# Altium footprint library CC3D.PcbLib: 23 footprints (part 2 of 2)
Each footprint in its own frame and in the unit in brackets; x right, y up, seen from the top. Pads: shape width x height; smd on the part's side, far side on the other; paste and mask are expansions set on the pad; w line width, h text height; cw(c..) or ccw(c..) is an arc to the next point about the centre after c.
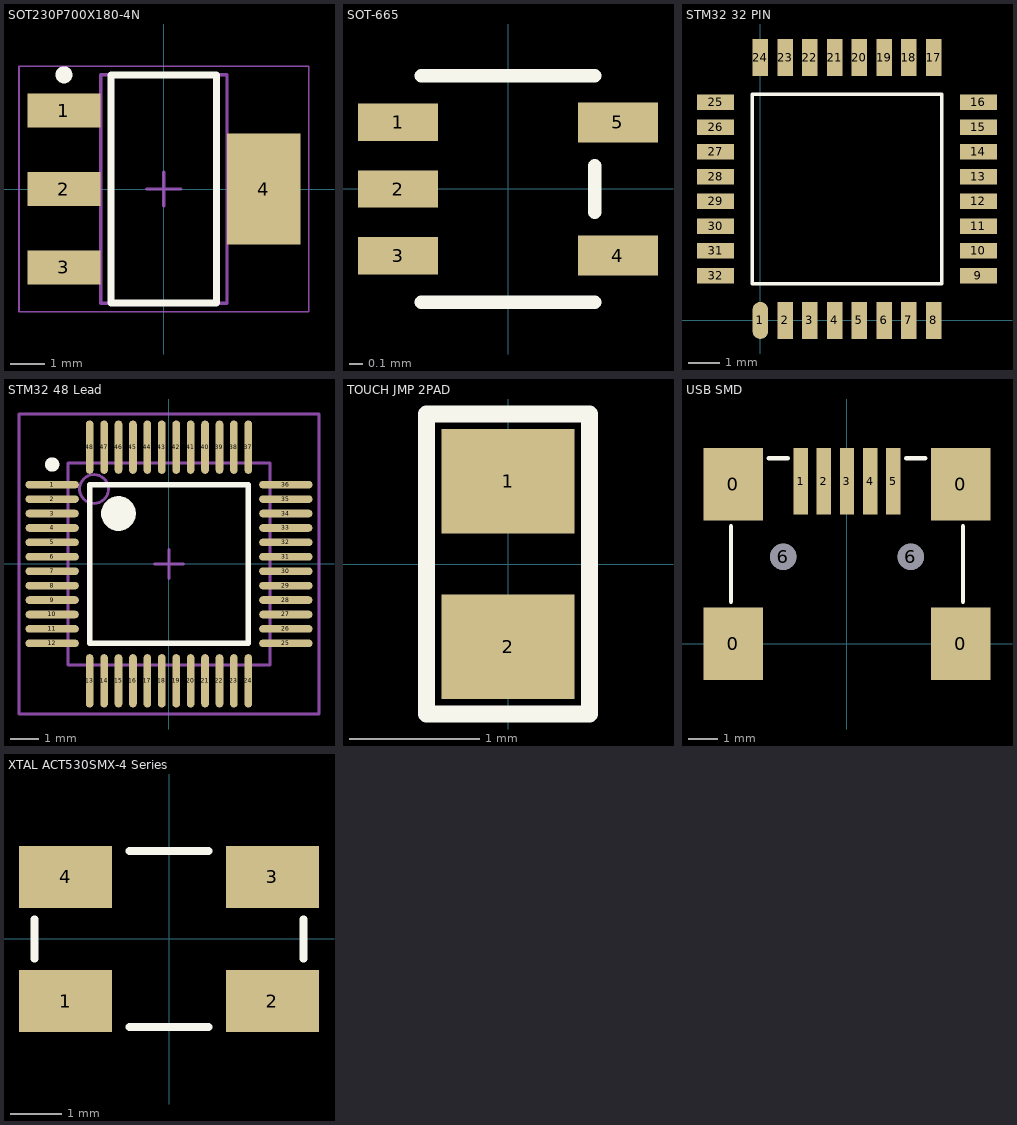
[diagram p1: the footprints below, top view; thin cyan lines are the x and y axes]

## SOT230P700X180-4N [mm] "SOT223, 4-Leads, Body 6.51x7.00mm (avg), Pitch 2.30mm, IPC Medium Density"
height 1.8
pads (4):
  rect 2.15x1 smd: 1(-2.93,2.3) 2(-2.93,0) 3(-2.93,-2.3)
  rect 2.15x3.25 smd: 4(2.93,0)
Top Overlay:
  circle w0.25: c-2.93,3.35 r0.125
  lines w0.2: -1.55,-3.35 1.55,-3.35 1.55,3.35 -1.55,3.35 -1.55,-3.35
Mechanical 13:
  lines w0.1: -1.855,-3.355 1.855,-3.355 1.855,3.355 -1.855,3.355 -1.855,-3.355
Mechanical 15:
  lines w0.05: -4.25,-3.6 4.25,-3.6 4.25,3.6 -4.25,3.6 -4.25,-3.6
  lines w0.1: -0.5,0 0.5,0 ; 0,-0.5 0,0.5
3D body: height 1.8, standoff 0.02, extent -1.855,-3.355 1.855,3.355

## SOT-665 [mm] "NXP SOT665"
height 0.6
pads (5):
  rect 0.6x0.28 smd mask+0.076: 1(-0.825,0.5) 2(-0.825,0) 3(-0.825,-0.5)
  rect 0.6x0.3 smd mask+0.076: 4(0.825,-0.5) 5(0.825,0.5)
Top Overlay:
  lines w0.1: -0.65,-0.85 0.65,-0.85 ; -0.65,0.85 0.65,0.85 ; 0.65,-0.175 0.65,0.175
3D body: height 0.6, standoff 0, extent -0.65,-0.85 0.65,0.85

## STM32 32 PIN [mm]
pads (32):
  oval 0.5x1.2 smd: 1(0,0)
  rect 0.5x1.2 smd: 2(0.8,0) 3(1.6,0) 4(2.4,0) 5(3.2,0) 6(4,0) 7(4.8,0) 8(5.6,0) 17(5.6,8.5) 18(4.8,8.5) 19(4,8.5) 20(3.2,8.5) 21(2.4,8.5) 22(1.6,8.5) 23(0.8,8.5) 24(0,8.5)
  rect 1.2x0.5 smd: 9(7.05,1.45) 10(7.05,2.25) 11(7.05,3.05) 12(7.05,3.85) 13(7.05,4.65) 14(7.05,5.45) 15(7.05,6.25) 16(7.05,7.05) 25(-1.45,7.05) 26(-1.45,6.25) 27(-1.45,5.45) 28(-1.45,4.65) 29(-1.45,3.85) 30(-1.45,3.05) 31(-1.45,2.25) 32(-1.45,1.45)
Top Overlay:
  lines w0.1: -0.265,1.185 5.865,1.185 5.865,7.315 -0.265,7.315 -0.265,1.185

## STM32 48 Lead [mm] "Thin QFP, 48-Leads, Body 7x7mm, Pitch 0.5mm, IPC Medium Density"
height 1.6
pads (48):
  oval 1.85x0.265 smd mask+0.076: 1(-4.05,2.75) 2(-4.05,2.25) 3(-4.05,1.75) 4(-4.05,1.25) 5(-4.05,0.75) 6(-4.05,0.25) 7(-4.05,-0.25) 8(-4.05,-0.75) 9(-4.05,-1.25) 10(-4.05,-1.75) 11(-4.05,-2.25) 12(-4.05,-2.75) 25(4.05,-2.75) 26(4.05,-2.25) 27(4.05,-1.75) 28(4.05,-1.25) 29(4.05,-0.75) 30(4.05,-0.25) 31(4.05,0.25) 32(4.05,0.75) 33(4.05,1.25) 34(4.05,1.75) 35(4.05,2.25) 36(4.05,2.75)
  oval 0.265x1.85 smd mask+0.076: 13(-2.75,-4.05) 14(-2.25,-4.05) 15(-1.75,-4.05) 16(-1.25,-4.05) 17(-0.75,-4.05) 18(-0.25,-4.05) 19(0.25,-4.05) 20(0.75,-4.05) 21(1.25,-4.05) 22(1.75,-4.05) 23(2.25,-4.05) 24(2.75,-4.05) 37(2.75,4.05) 38(2.25,4.05) 39(1.75,4.05) 40(1.25,4.05) 41(0.75,4.05) 42(0.25,4.05) 43(-0.25,4.05) 44(-0.75,4.05) 45(-1.25,4.05) 46(-1.75,4.05) 47(-2.25,4.05) 48(-2.75,4.05)
Top Overlay:
  circle w0.6: c-1.75,1.75 r0.3
  circle w0.25: c-4.05,3.45 r0.125
  lines w0.2: -2.75,-2.75 2.75,-2.75 2.75,2.75 -2.75,2.75 -2.75,-2.75
Mechanical 13:
  circle w0.1: c-2.6,2.6 r0.5
  lines w0.1: -3.5,-3.5 3.5,-3.5 3.5,3.5 -3.5,3.5 -3.5,-3.5
Mechanical 15:
  lines w0.1: -0.5,0 0.5,0 ; 0,-0.5 0,0.5 ; -5.2,-5.2 5.2,-5.2 5.2,5.2 -5.2,5.2 -5.2,-5.2
3D body "LQFP48.step": height 1.56, standoff 0, extent -4.5,-4.487 4.5,4.513

## TOUCH JMP 2PAD [mil] "Touch Jumper 2 Pad"
height 39.37
pads (2):
  rect 40x31.5 smd mask+0: 1(0,25) 2(0,-25)
Top Overlay:
  lines w5: -24.61,-45.27 -24.61,45.27 24.61,45.27 24.61,-45.27 -24.61,-45.27

## USB SMD [mm] "DX2R005HN2E700"
height 3.95
pads (11):
  rect 2.05x2.5 smd: 0(-3.925,0) 0(-3.925,5.5) 0(3.925,0) 0(3.925,5.5)
  rect 0.5x2.3 smd mask+0.085: 1(-1.6,5.6) 2(-0.8,5.6) 3(0,5.6) 4(0.8,5.6) 5(1.6,5.6)
  round 0.9 hole 0.9 unplated: 6(-2.2,3) 6(2.2,3)
Top Overlay:
  lines w0.15: -4,1.45 -4,4.05 ; -2.7,6.4 -2.05,6.4 ; 2.05,6.4 2.7,6.4 ; 4,1.45 4,4.05
3D body "USB.step": height 4.17, standoff -0.92, extent -4.95,-2.85 4.95,6.35

## XTAL ACT530SMX-4 Series [mm] "ACT530SMX-4Series from ACT"
height 0.76
pads (4):
  rect 1.8x1.2 smd: 1(-2,-1.2) 2(2,-1.2) 3(2,1.2) 4(-2,1.2)
Top Overlay:
  lines w0.15: -2.6,-0.381 -2.6,0.381 ; 2.6,-0.381 2.6,0.381
  lines w0.152: -0.762,-1.698 0.762,-1.698 ; -0.762,1.702 0.762,1.702
3D body "CRYSTALSMD5X32.step": height 1, standoff 0, extent -2.5,-1.6 2.5,1.6